# EAGLE library part 691401700007 (library Wurth_Elektronik_Electromechanic_Terminal_Blocks_Connectors_rev16b)
WR-TBL Terminal block - serie 401 5,0mm - Spring clamp/Screw less - Vertical entry - 07p Code:Con_TBL_Screwless_5.00_6914017000xx_691401700007 Created 2014-12-22, aslant tao 2014 (C) Würth Elektronik
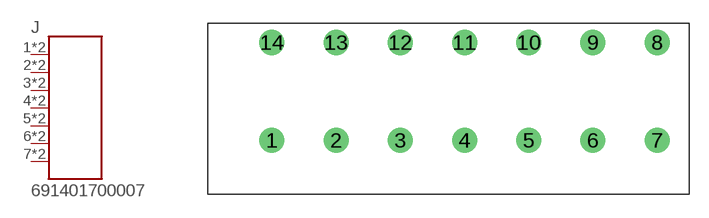
[diagram p235: symbol with the pads of 691401700007; footprint 691401700007]

Designator prefix J

## 691401700007  [691401700007]
1  1  pas
2  2  pas
3  3  pas
4  4  pas
5  5  pas
6  6  pas
7  7  pas
8  7  pas
9  6  pas
10  5  pas
11  4  pas
12  3  pas
13  2  pas
14  1  pas

## Footprint 691401700007 (pad centres in mm)
WR-TBL Serie 401 - 5.0mm Screwless Vertikal Entry - 2 mm2 Wires, 7 Pins
drill 1.3: 1 0,0; 2 5,0; 3 10,0; 4 15,0; 5 20,0; 6 25,0; 7 30,0; 8 30,7.62; 9 25,7.62; 10 20,7.62; 11 15,7.62; 12 10,7.62; 13 5,7.62; 14 0,7.62